# Altium schematic symbol library HEADER-2X10_STRAIGHT.SchLib: 1 symbol
Pins are listed as number, name and electrical type; pins without a type are passive.

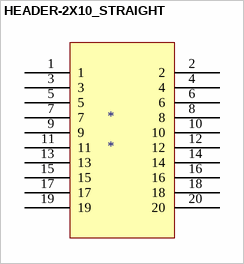
[diagram p0: symbol HEADER-2X10_STRAIGHT]

## HEADER-2X10_STRAIGHT
designator *
footprint HEADER-2X10-100mil_STRAIGHT
pins: 1, 2, 3, 4, 5, 6, 7, 8, 9, 10, 11, 12, 13, 14, 15, 16, 17, 18, 19, 20